# Altium schematic symbol library ADXL343BCCZ-RL.SchLib: 1 symbol
Pins are listed as number, name and electrical type; pins without a type are passive.

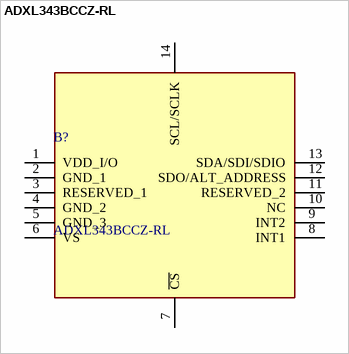
[diagram p0: symbol ADXL343BCCZ-RL]

## ADXL343BCCZ-RL
designator B?
Accelerometer X, Y, Z Axis +/-2g, 4g, 8g, 16g 0.05Hz ~ 1.6kHz 14-LGA (3x5); Manufacturer_Name: Analog Devices; Geometry.Height: 1mm; Manufacturer_Part_Number: ADXL343BCCZ-RL; Mouser Part Number: 584-ADXL343BCCZ-R; Mouser Price/Stock: https://www.mouser.co.uk/ProductDetail/Analog-Devices/ADXL343BCCZ-RL?qs=WIvQP4zGaniHpowyrbt1Aw%3D%3D; Arrow Part Number: ADXL343BCCZ-RL; Arrow Price/Stock: https://www.arrow.com/en/products/adxl343bccz-rl/analog-devices?region=nac; Datasheet Link: https://www.analog.com/media/en/technical-documentation/data-sheets/ADXL343.pdf
footprint ADXL343BCCZRL
pins: 1 VDD_I/O, 2 GND_1, 3 RESERVED_1, 4 GND_2, 5 GND_3, 6 VS, 7 ~{CS}, 8 INT1, 9 INT2, 10 NC, 11 RESERVED_2, 12 SDO/ALT_ADDRESS, 13 SDA/SDI/SDIO, 14 SCL/SCLK